# EAGLE library part 14PIN_NAND (library user_ic)
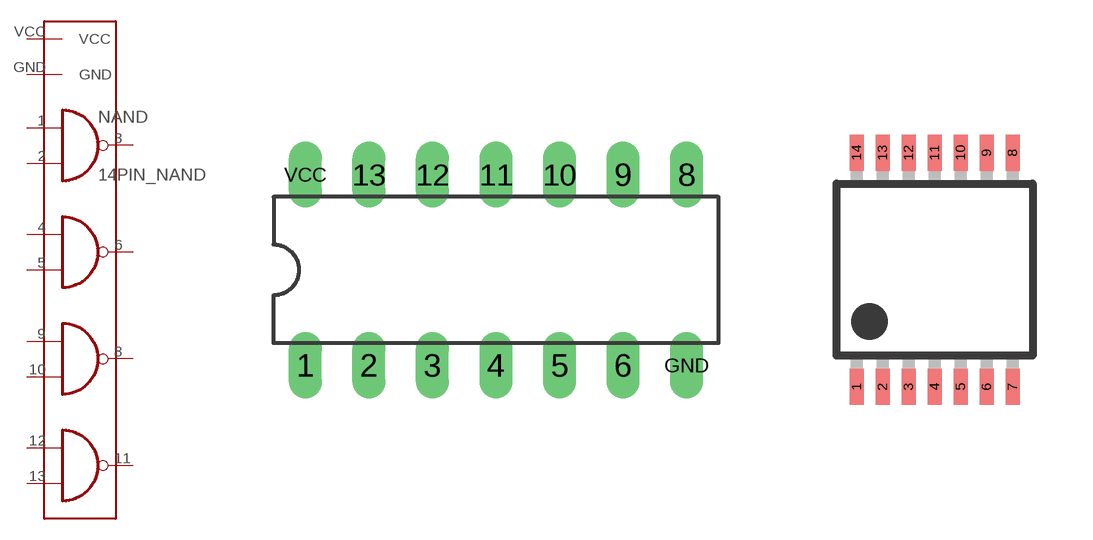
[diagram p0: symbol with the pads of 14PIN_NAND; footprints 14PIN_NAND, TSSOP14]

Designator prefix NAND

## 14PIN_NAND  [14PIN_NAND]
1  1A  in
2  1B  in
3  1Y  out
4  2A  in
5  2B  in
6  2Y  out
8  3Y  out
9  3A  in
10  3B  in
11  4Y  out
12  4A  in
13  4B  in
GND  GND
VCC  VCC

## 14PIN_NAND2  [TSSOP14]
1  1A  in
2  1B  in
3  1Y  out
4  2Y  out
5  2B  in
6  2A  in
7  GND
8  3A  in
9  3B  in
10  3Y  out
11  4Y  out
12  4B  in
13  4A  in
14  VCC

## Footprint 14PIN_NAND (pad centres in mm)
Dual In Line Package
drill 0.813 long: 1 -7.62,-3.81; 2 -5.08,-3.81; 3 -2.54,-3.81; 4 0,-3.81; 5 2.54,-3.81; 6 5.08,-3.81; 8 7.62,3.81; 9 5.08,3.81; 10 2.54,3.81; 11 0,3.81; 12 -2.54,3.81; 13 -5.08,3.81; GND 7.62,-3.81; VCC -7.62,3.81

## Footprint TSSOP14 (pad centres in mm)
plastic thin shrink small outline package; 14 leads; body width 4.4 mm SOT402-1 Source: http://www.nxp.com/documents/data_sheet/74ABT125.pdf TC4011 入力電圧max18v rsコンポーネンツ通販コード[663-4283]
smd 0.35 x 0.9: 1 -1.95,-2.925; 2 -1.3,-2.925; 3 -0.65,-2.925; 4 0,-2.925; 5 0.65,-2.925; 6 1.3,-2.925; 7 1.95,-2.925; 8 1.95,2.925; 9 1.3,2.925; 10 0.65,2.925; 11 0,2.925; 12 -0.65,2.925; 13 -1.3,2.925; 14 -1.95,2.925